# Altium schematic symbol library 1N4728A.SchLib: 1 symbol
Pins are listed as number, name and electrical type; pins without a type are passive.

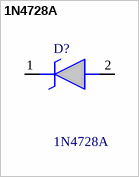
[diagram p0: symbol 1N4728A]

## 1N4728A
designator D?
Zener Diodes 3.3V 1W ZENER 5%; Manufacturer_Name: onsemi; Mouser Part Number: 512-1N4728A; Mouser Price/Stock: https://www.mouser.co.uk/ProductDetail/onsemi-Fairchild/1N4728A?qs=SSucg2PyLi7orktZ3y7vHw%3D%3D; Manufacturer_Part_Number: 1N4728A; Datasheet Link: https://www.onsemi.com/pdf/datasheet/1n4736at-d.pdf
footprint DIOAD1413W86L463D238
pins: 1 K, 2 A